# Altium footprint library PcbLib1.PcbLib: 42 footprints (part 3 of 3)
Each footprint in its own frame and in the unit in brackets; x right, y up, seen from the top. Pads: shape width x height; smd on the part's side, far side on the other; paste and mask are expansions set on the pad; w line width, h text height; cw(c..) or ccw(c..) is an arc to the next point about the centre after c.
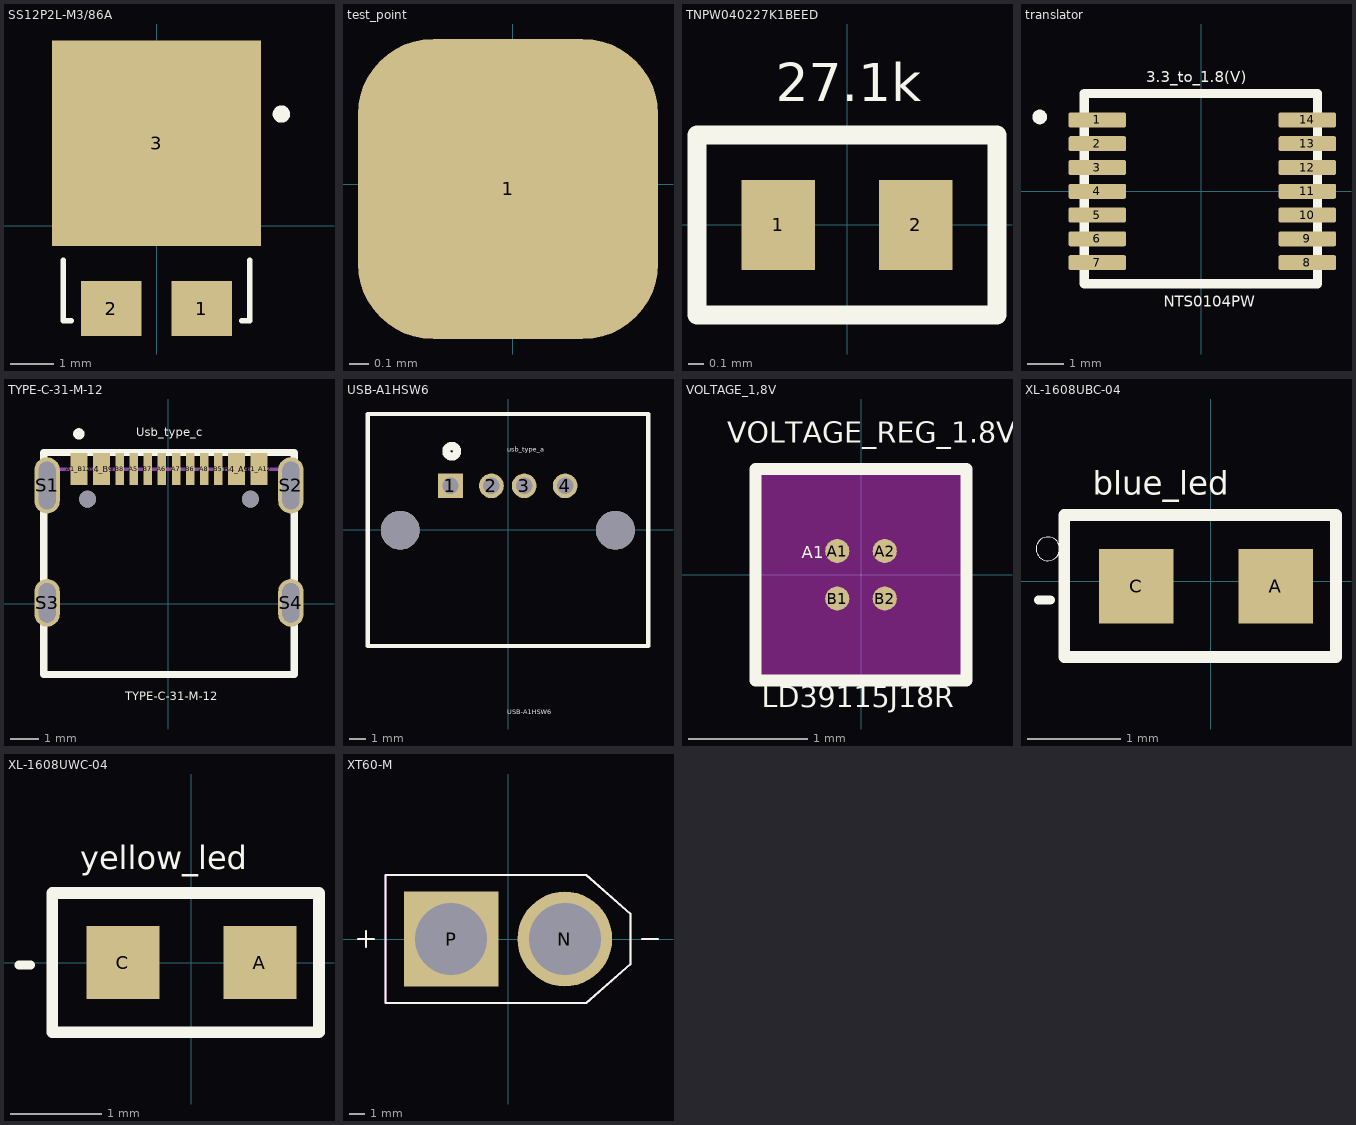
[diagram p2: the footprints below, top view; thin cyan lines are the x and y axes]

## SS12P2L-M3/86A [mm] "20V 560mV@12A 12A TO-277A Single Diodes ROHS"
pads (3):
  rect 1.4x1.27 smd: 1(1.04,-1.903) 2(-1.04,-1.903)
  rect 4.8x4.72 smd: 3(0,1.903)
Top Overlay:
  circle w0.2: c2.875,2.575 r0.1
  lines w0.127: -2.15,-0.787 -2.15,-2.187 -1.96,-2.187 ; 1.96,-2.187 2.15,-2.187 2.15,-0.787
3D body "SS12P2L-M3_86A.STEP": height 1.21, standoff 0.01, extent -2.3,-2.375 2.3,4.125

## test_point [mm] "1.5mm"
pads (1):
  rrect50% 1.524x1.524 smd: 1(-0.025,-0.025)

## TNPW040227K1BEED [mm] "63mW 27.1kΩ ±25ppm/℃ Thin Film Resistor ±0.1% 0402 Chip Resistor - Surface Mount ROHS"
pads (2):
  rect 0.49x0.6 smd: 1(-0.457,0) 2(0.457,0)
Top Overlay:
  lines w0.127: -1,-0.6 1,-0.6 1,0.6 -1,0.6 -1,-0.6
  text "27.1k" at -0.475,0.825 h0.25
3D body "step_temp.STEP": height 0.4, standoff 0, extent -0.5,-0.25 0.5,0.25

## translator [mm]
pads (14):
  rrect25% 1.57x0.41 smd: 1(-2.845,1.95) 2(-2.845,1.3) 3(-2.845,0.65) 4(-2.845,0) 5(-2.845,-0.65) 6(-2.845,-1.3) 7(-2.845,-1.95) 8(2.895,-1.95) 9(2.895,-1.3) 10(2.895,-0.65) 11(2.895,0) 12(2.895,0.65) 13(2.895,1.3) 14(2.895,1.95)
Top Overlay:
  circle w0.2: c-4.42,2.032 r0.1
  lines w0.254: -3.2,-2.525 3.175,-2.525 3.175,2.675 -3.2,2.675 -3.2,-2.525
  text "NTS0104PW" at -1.025,-3.15 h0.3
  text "3.3_to_1.8(V)" at -1.5,2.975 h0.3
3D body "step_temp.STEP": height 1.2, standoff 0, extent -3.175,-2.5 3.225,2.5

## TYPE-C-31-M-12 [mm]
pads (18):
  rect 0.6x1.14 smd mask+0.05: A1_B12(-3.175,4.775) A4_B9(-2.375,4.775) B1_A12(3.225,4.775) B4_A9(2.425,4.775)
  rect 0.3x1.14 smd mask+0.05: A5(-1.225,4.775) A6(-0.225,4.775) A7(0.275,4.775) A8(1.275,4.775) B5(1.775,4.775) B6(0.775,4.775) B7(-0.725,4.775) B8(-1.725,4.775)
  oval 0.9x2 hole 0.6 slot 1.7 at 90 deg: S1(-4.3,4.195) S2(4.35,4.195)
  oval 0.9x1.7 hole 0.6 slot 1.4 at 90 deg: S3(-4.3,0.025) S4(4.35,0.025)
  round 0.6 hole 0.6 unplated: ""(-2.865,3.705) ""(2.915,3.705)
Top Overlay:
  circle w0.2: c-3.175,6.025 r0.1
  lines w0.254: -4.42,-2.515 4.47,-2.515 4.47,5.359 -4.42,5.359 -4.42,-2.515
  text "TYPE-C-31-M-12" at -1.526,-3.431 h0.3
  text "Usb_type_c" at -1.145,5.94 h0.3
Mechanical 13:
  lines w0.127: -4.445,-2.575 -4.445,4.775 4.495,4.775 4.495,-2.575 -4.445,-2.575
3D body "step_temp.STEP": height 3.31, standoff -0.99, extent -4.445,-2.575 4.495,5.33

## USB-A1HSW6 [mm]
pads (6):
  rect 1.508x1.508 / inner round 1.508 / far side rect 1.508x1.508 hole 1: 1(-3.525,2.685)
  round 1.508 hole 1: 2(-1.025,2.685) 3(0.975,2.685) 4(3.475,2.685)
  round 2.38 hole 2.38 unplated: ""(-6.595,-0.025) ""(6.545,-0.025)
Top Overlay:
  circle w0.508: c-3.45,4.8 r0.326
  lines w0.254: -8.575,-7.1 8.55,-7.1 8.55,7.075 -8.575,7.075 -8.575,-7.1
  text "usb_type_a" at -0.05,4.775 h0.3
  text "USB-A1HSW6" at -0.05,-11.25 h0.3
3D body "USB-A1HSW6.STEP": height 7.6, standoff -3.2, extent -7.725,-10.275 8.075,3.825

## VOLTAGE_1,8V [mm]
pads (4):
  round 0.203 smd paste+0 mask+0: A1(-0.2,0.2) A2(0.2,0.2) B1(-0.2,-0.2) B2(0.2,-0.2)
Top Overlay:
  lines w0.1: -0.889,-0.889 0.889,-0.889 0.889,0.889 -0.889,0.889 -0.889,-0.889
  text "A1" at -0.498,0.137 h0.1
  text "VOLTAGE_REG_1.8V" at -1.125,1.053 h0.3
  text "LD39115J18R" at -0.834,-1.172 h0.3
Keep-Out Layer:
  region: -0.844,-0.844 -0.844,0.844 0.844,0.844 0.844,-0.844
3D body "FLIPCHIP4_0P81X0P81X0P4_STM.step": height 0.61, standoff 0, extent -0.406,-0.406 0.406,0.406

## XL-1608UBC-04 [mm] "20mA 3.3V Blue 70mW 0603 LED Indication - Discrete ROHS"
pads (2):
  rect 0.8x0.8 smd: A(0.7,-0.05) C(-0.8,-0.05)
Top Overlay:
  circle w0: c-1.75,0.35 r0.127
  lines w0.1: -1.85,-0.2 -1.725,-0.2
  lines w0.127: -1.574,-0.812 1.347,-0.812 1.347,0.712 -1.574,0.712 -1.574,-0.812
  text "blue_led" at -1.269,0.932 h0.25
3D body "LTST-C190GKT--3DModel-STEP-510211.STEP": height 0.81, standoff 0.01, extent -0.85,-0.45 0.75,0.35

## XL-1608UWC-04 [mm] "20mA 13700K~33000K White 2.7V 70mW 0603 LED Indication - Discrete ROHS"
pads (2):
  rect 0.8x0.8 smd: A(0.75,0) C(-0.75,0)
Top Overlay:
  lines w0.1: -1.888,-0.025 -1.763,-0.025
  lines w0.127: -1.524,-0.762 1.397,-0.762 1.397,0.762 -1.524,0.762 -1.524,-0.762
  text "yellow_led" at -1.219,1.024 h0.25
3D body "LTST-C190GKT--3DModel-STEP-510211.STEP": height 0.81, standoff 0.01, extent -0.8,-0.4 0.8,0.4

## XT60-M [mm] "Plug; DC supply; XT60; male; PIN: 2; for cable; soldered; 30A; 500V"
pads (2):
  round 6 hole 4.55: N(3.6,0)
  rect 6x6 / inner round 6 / far side rect 6x6 hole 4.55: P(-3.6,0)
Top Overlay:
  lines w0.127: -9.5,0 -8.5,0 ; -9,-0.5 -9,0.5 ; 8.5,0 9.5,0 ; -7.75,-4.05 -7.75,4.05 4.95,4.05 7.75,1.6 7.75,-1.6 4.95,-4.05 -7.75,-4.05
Mechanical 13:
  lines w0.127: -7.75,-4.05 -7.75,4.05 4.95,4.05 7.75,1.6 7.75,-1.6 4.95,-4.05 -7.75,-4.05
3D body "step_temp.STEP": height 16, standoff -4.5, extent -7.75,-4.05 7.75,4.05